# Altium schematic symbol library SCH - MCU - SI LABS - SI LABS EFR32FG14P232F128GM48 48-PIN QFN 7X7.SchLib: 1 symbol
Pins are listed as number, name and electrical type; pins without a type are passive.

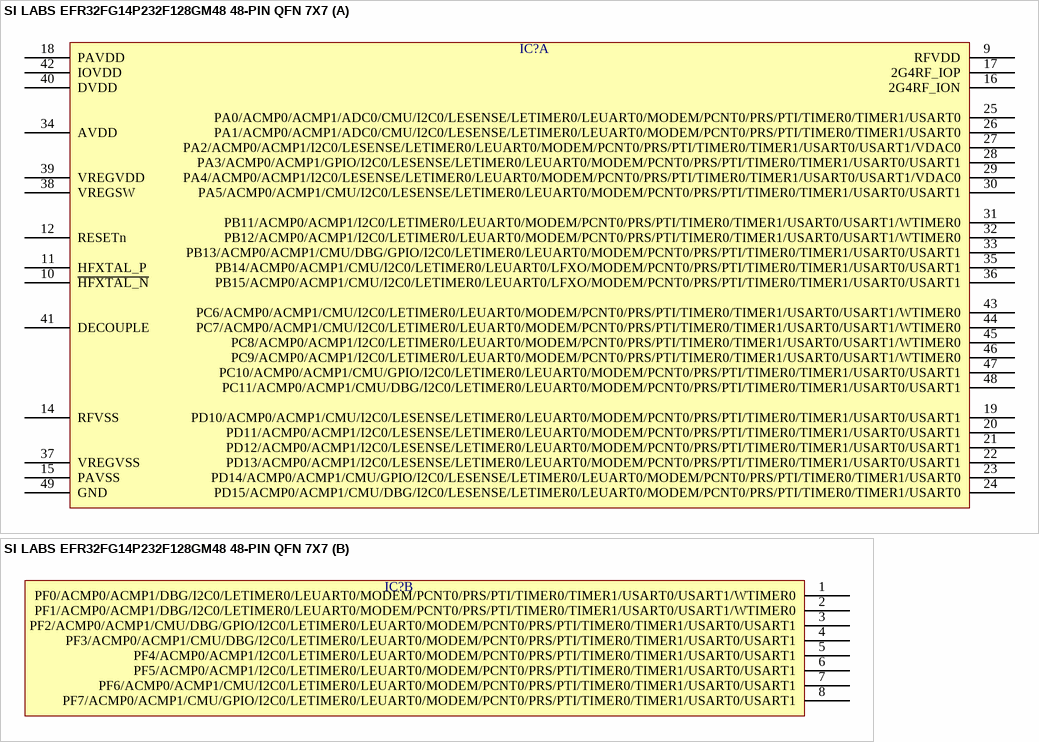
[diagram p0: symbol SI LABS EFR32FG14P232F128GM48 48-PIN QFN 7X7]

## SI LABS EFR32FG14P232F128GM48 48-PIN QFN 7X7
designator IC?  (value not drawn)
part A pins: 9 RFVDD, 10 ~{HFXTAL_N}, 11 HFXTAL_P, 12 RESETn, 14 RFVSS, 15 PAVSS, 16 2G4RF_ION, 17 2G4RF_IOP, 18 PAVDD, 19 PD10/ACMP0/ACMP1/CMU/I2C0/LESENSE/LETIMER0/LEUART0/MODEM/PCNT0/PRS/PTI/TIMER0/TIMER1/USART0/USART1, 20 PD11/ACMP0/ACMP1/I2C0/LESENSE/LETIMER0/LEUART0/MODEM/PCNT0/PRS/PTI/TIMER0/TIMER1/USART0/USART1, 21 PD12/ACMP0/ACMP1/I2C0/LESENSE/LETIMER0/LEUART0/MODEM/PCNT0/PRS/PTI/TIMER0/TIMER1/USART0/USART1, 22 PD13/ACMP0/ACMP1/I2C0/LESENSE/LETIMER0/LEUART0/MODEM/PCNT0/PRS/PTI/TIMER0/TIMER1/USART0/USART1, 23 PD14/ACMP0/ACMP1/CMU/GPIO/I2C0/LESENSE/LETIMER0/LEUART0/MODEM/PCNT0/PRS/PTI/TIMER0/TIMER1/USART0, 24 PD15/ACMP0/ACMP1/CMU/DBG/I2C0/LESENSE/LETIMER0/LEUART0/MODEM/PCNT0/PRS/PTI/TIMER0/TIMER1/USART0, 25 PA0/ACMP0/ACMP1/ADC0/CMU/I2C0/LESENSE/LETIMER0/LEUART0/MODEM/PCNT0/PRS/PTI/TIMER0/TIMER1/USART0, 26 PA1/ACMP0/ACMP1/ADC0/CMU/I2C0/LESENSE/LETIMER0/LEUART0/MODEM/PCNT0/PRS/PTI/TIMER0/TIMER1/USART0, 27 PA2/ACMP0/ACMP1/I2C0/LESENSE/LETIMER0/LEUART0/MODEM/PCNT0/PRS/PTI/TIMER0/TIMER1/USART0/USART1/VDAC0, 28 PA3/ACMP0/ACMP1/GPIO/I2C0/LESENSE/LETIMER0/LEUART0/MODEM/PCNT0/PRS/PTI/TIMER0/TIMER1/USART0/USART1, 29 PA4/ACMP0/ACMP1/I2C0/LESENSE/LETIMER0/LEUART0/MODEM/PCNT0/PRS/PTI/TIMER0/TIMER1/USART0/USART1/VDAC0, 30 PA5/ACMP0/ACMP1/CMU/I2C0/LESENSE/LETIMER0/LEUART0/MODEM/PCNT0/PRS/PTI/TIMER0/TIMER1/USART0/USART1, 31 PB11/ACMP0/ACMP1/I2C0/LETIMER0/LEUART0/MODEM/PCNT0/PRS/PTI/TIMER0/TIMER1/USART0/USART1/WTIMER0, 32 PB12/ACMP0/ACMP1/I2C0/LETIMER0/LEUART0/MODEM/PCNT0/PRS/PTI/TIMER0/TIMER1/USART0/USART1/WTIMER0, 33 PB13/ACMP0/ACMP1/CMU/DBG/GPIO/I2C0/LETIMER0/LEUART0/MODEM/PCNT0/PRS/PTI/TIMER0/TIMER1/USART0/USART1, 34 AVDD, 35 PB14/ACMP0/ACMP1/CMU/I2C0/LETIMER0/LEUART0/LFXO/MODEM/PCNT0/PRS/PTI/TIMER0/TIMER1/USART0/USART1, 36 PB15/ACMP0/ACMP1/CMU/I2C0/LETIMER0/LEUART0/LFXO/MODEM/PCNT0/PRS/PTI/TIMER0/TIMER1/USART0/USART1, 37 VREGVSS, 38 VREGSW, 39 VREGVDD, 40 DVDD, 41 DECOUPLE, 42 IOVDD, 43 PC6/ACMP0/ACMP1/CMU/I2C0/LETIMER0/LEUART0/MODEM/PCNT0/PRS/PTI/TIMER0/TIMER1/USART0/USART1/WTIMER0, 44 PC7/ACMP0/ACMP1/CMU/I2C0/LETIMER0/LEUART0/MODEM/PCNT0/PRS/PTI/TIMER0/TIMER1/USART0/USART1/WTIMER0, 45 PC8/ACMP0/ACMP1/I2C0/LETIMER0/LEUART0/MODEM/PCNT0/PRS/PTI/TIMER0/TIMER1/USART0/USART1/WTIMER0, 46 PC9/ACMP0/ACMP1/I2C0/LETIMER0/LEUART0/MODEM/PCNT0/PRS/PTI/TIMER0/TIMER1/USART0/USART1/WTIMER0, 47 PC10/ACMP0/ACMP1/CMU/GPIO/I2C0/LETIMER0/LEUART0/MODEM/PCNT0/PRS/PTI/TIMER0/TIMER1/USART0/USART1, 48 PC11/ACMP0/ACMP1/CMU/DBG/I2C0/LETIMER0/LEUART0/MODEM/PCNT0/PRS/PTI/TIMER0/TIMER1/USART0/USART1, 49 GND
part B pins: 1 PF0/ACMP0/ACMP1/DBG/I2C0/LETIMER0/LEUART0/MODEM/PCNT0/PRS/PTI/TIMER0/TIMER1/USART0/USART1/WTIMER0, 2 PF1/ACMP0/ACMP1/DBG/I2C0/LETIMER0/LEUART0/MODEM/PCNT0/PRS/PTI/TIMER0/TIMER1/USART0/USART1/WTIMER0, 3 PF2/ACMP0/ACMP1/CMU/DBG/GPIO/I2C0/LETIMER0/LEUART0/MODEM/PCNT0/PRS/PTI/TIMER0/TIMER1/USART0/USART1, 4 PF3/ACMP0/ACMP1/CMU/DBG/I2C0/LETIMER0/LEUART0/MODEM/PCNT0/PRS/PTI/TIMER0/TIMER1/USART0/USART1, 5 PF4/ACMP0/ACMP1/I2C0/LETIMER0/LEUART0/MODEM/PCNT0/PRS/PTI/TIMER0/TIMER1/USART0/USART1, 6 PF5/ACMP0/ACMP1/I2C0/LETIMER0/LEUART0/MODEM/PCNT0/PRS/PTI/TIMER0/TIMER1/USART0/USART1, 7 PF6/ACMP0/ACMP1/CMU/I2C0/LETIMER0/LEUART0/MODEM/PCNT0/PRS/PTI/TIMER0/TIMER1/USART0/USART1, 8 PF7/ACMP0/ACMP1/CMU/GPIO/I2C0/LETIMER0/LEUART0/MODEM/PCNT0/PRS/PTI/TIMER0/TIMER1/USART0/USART1